# Altium schematic symbol library UMK105CG181JV-F.SchLib: 2 symbols
Pins are listed as number, name and electrical type; pins without a type are passive.

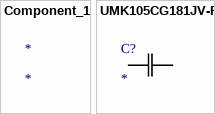
[diagram p0: symbols Component_1 to UMK105CG181JV-F]

## Component_1
designator *

## UMK105CG181JV-F
designator C?
No Description Available; Mfr_Name: Taiyo Yuden
footprint cap_UMK105 CG080CV-F_TAY
pins: 1, 2